# Altium schematic symbol library PBL - Resistors.SCHLIB: 223 symbols (part 4 of 4)
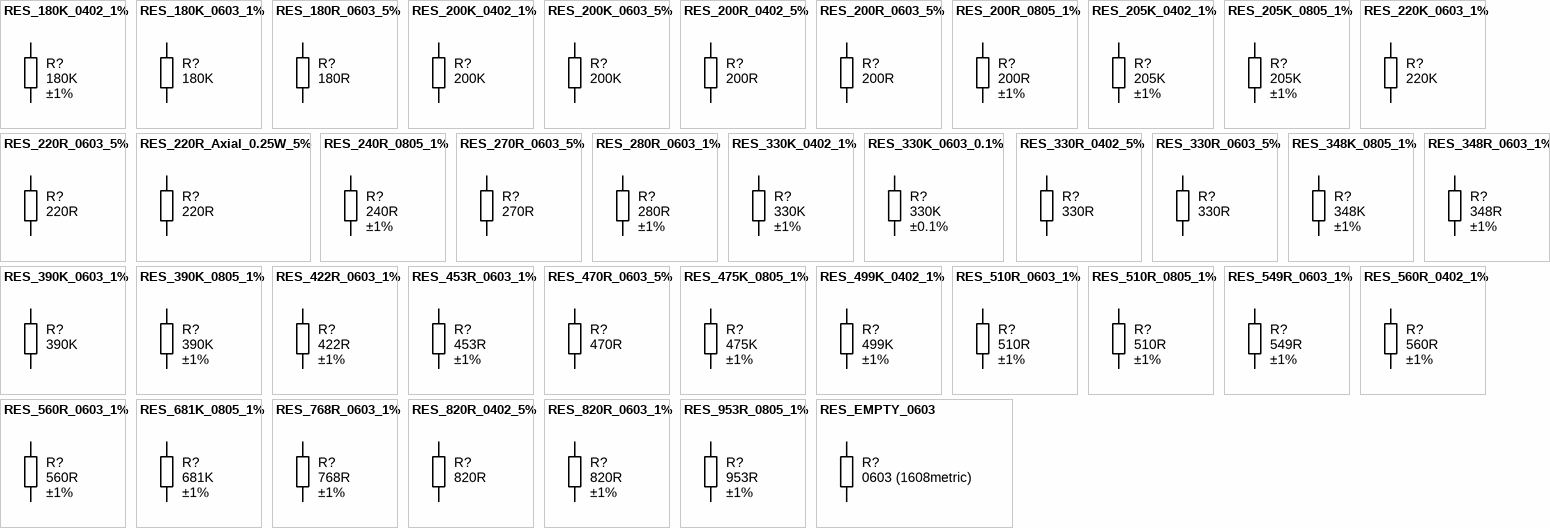
[diagram p9: symbols RES_180K_0402_1% to RES_EMPTY_0603]

## RES_510R_0603_1%
designator R?, comment value 510R  Tolerance: ±1%  (hidden comment: Thick Film)
Resistor SMD chip 510 Ohm 0.1W 1% 0603; Manufacturer 1: Yageo; Manufacturer Part Number 1: RC0603FR-07510RL; Ratings: 1/10 W; SCDType: spec; Package / Case: 0603 (1608 Metric); Material: Thick Film; Supplier 1: Digi-Key; Supplier Part Number 1: 311-510HRCT-ND
footprint RESC1608X55N (Chip Resistor, Body 1.6x0.8mm, 0603, IPC Medium Density)
pins: 1, 2

## RES_510R_0805_1%
designator R?, comment value 510R  Tolerance: ±1%  (hidden comment: Thick Film)
Resistor SMD chip 510 Ohm 0.125W 1% 0805; Manufacturer 1: Yageo; Manufacturer Part Number 1: RC0805FR-07510RL; Ratings: 1/8 W; SCDType: spec; Package / Case: 0805 (2012 Metric); Material: Thick Film; Supplier 1: Digi-Key; Supplier Part Number 1: 311-510CRCT-ND
footprint RESC2012X70N (Chip Resistor, Body 2.0x1.2mm, 0805, IPC Medium Density)
pins: 1, 2

## RES_549R_0603_1%
designator R?, comment value 549R  Tolerance: ±1%  (hidden comment: Thick Film)
Resistor SMD chip 549 Ohm 0.1W 1% 0603; Manufacturer 1: Yageo; Manufacturer Part Number 1: RC0603FR-07549RL; Ratings: 1/10W; SCDType: undef; Package / Case: 0603 (1608 Metric); Supplier 1: Digi-Key; Supplier Part Number 1: 311-549HRCT-ND
footprint RESC1608X55N (Chip Resistor, Body 1.6x0.8mm, 0603, IPC Medium Density)
pins: 1, 2

## RES_560R_0402_1%
designator R?, comment value 560R  Tolerance: ±1%  (hidden comment: Thick Film)
Resistor SMD chip 560 Ohm 0.063W 1% 0402; Ratings: 1/16 W; Package / Case: 0402 (1005 Metric); Supplier 1: Digi-Key; Supplier Part Number 1: 311-560LRCT-ND
footprint RESC1005X40N (Chip Resistor, Body 1.0x0.5mm, EIA 0402, IPC Medium Density)
pins: 1, 2

## RES_560R_0603_1%
designator R?, comment Tolerance: ±1%  (hidden comment: 560R)
Resistor SMD chip 560 Ohm 0.1W 1% 0603; Manufacturer 1: Yageo; Manufacturer Part Number 1: RC0603FR-07560RL; Ratings: 1/10W; SCDType: spec; Package / Case: 0603 (1608 Metric); Supplier 1: Digi-Key; Supplier Part Number 1: 311-560HRCT-ND; Value: 560R
footprint RESC1608X55N (Chip Resistor, Body 1.6x0.8mm, 0603, IPC Medium Density)
pins: 1, 2

## RES_681K_0805_1%
designator R?, comment value 681K  Tolerance: ±1%  (hidden comment: Thick Film)
Resistor SMD chip 681K Ohm 0.125W 1% 0805; Manufacturer: Panasonic Electronic Components; Manufacturer Part Number: ERJ-6ENF6813V; Power (Watts): 0.125W, 1/8W; Temperature Coefficient: ±100ppm/°C; Supplier 1: Digi-Key; Supplier Part Number 1: P681KCCT-ND; RoHS: RoHS Compliant; Category: Resistors; Stock 1: 119799; Pricing 1: 1=0.1, 10=0.041, 100=0.0167, 1000=0.00749, 2500=0.0065 (USD); Packaging: Cut Tape (CT); Part Status: Active; Composition: Thick Film; Features: Automotive AEC-Q200; Operating Temperature: -55°C ~ 155°C; Package / Case: 0805 (2012 Metric); Supplier Device Package: 0805; Size / Dimension: 0.079" L x 0.049" W (2.00mm x 1.25mm); Height - Seated (Max): 0.028" (0.70mm); Failure Rate: -; ComponentLink1URL: https://industrial.panasonic.com/cdbs/www-data/pdf/RDA0000/AOA0000C304.pdf; ComponentLink1Description: https://industrial.panasonic.com/cdbs/www-data/pdf/RDA0000/AOA0000C304.pdf
footprint RESC2012X70N (Chip Resistor, Body 2.0x1.2mm, 0805, IPC Medium Density)
pins: 1, 2

## RES_768R_0603_1%
designator R?, comment value 768R  Tolerance: ±1%  (hidden comment: Thick Film)
Resistor SMD chip 768 Ohm 0.1W 1% 0603; Manufacturer 1: Yageo; Manufacturer Part Number 1: RC0603FR-07768RL; Ratings: 1/10W; SCDType: spec; Package / Case: 0603 (1608 Metric); Supplier 1: Digi-Key; Supplier Part Number 1: 311-768HRCT-ND
footprint RESC1608X55N (Chip Resistor, Body 1.6x0.8mm, 0603, IPC Medium Density)
pins: 1, 2

## RES_820R_0402_5%
designator R?, comment value 820R  (hidden comment: Thick Film)
Resistor SMD chip 820 Ohm 0.063W 5% 0402; Ratings: 1/16 W; SCDType: spec; Package / Case: 0402 (1005 Metric); Tolerance: ±5%; ComponentLink1URL: http://www.yageo.com/documents/recent/PYu-RC0402_51_RoHS_L_6.pdf; ComponentLink1Description: http://www.yageo.com/documents/recent/PYu-RC0402_51_RoHS_L_6.pdf; Supplier 1: Digi-Key; Supplier Part Number 1: 311-820JRCT-ND
footprint RESC1005X40N (Chip Resistor, Body 1.0x0.5mm, EIA 0402, IPC Medium Density)
pins: 1, 2

## RES_820R_0603_1%
designator R?, comment value 820R  Tolerance: ±1%  (hidden comment: Thick Film)
Resistor SMD chip 820 Ohm 0.1W 1% 0603; Manufacturer Part Number 1: RC0603FR-07820RL; Manufacturer 1: Yageo; Ratings: 1/10W; SCDType: undef; Package / Case: 0603 (1608 Metric); Supplier 1: Digi-Key; Supplier Part Number 1: 311-820HRCT-ND
footprint RESC1608X55N (Chip Resistor, Body 1.6x0.8mm, 0603, IPC Medium Density)
pins: 1, 2

## RES_953R_0805_1%
designator R?, comment value 953R  Tolerance: ±1%  (hidden comment: Thick Film)
Resistor SMD chip 953 Ohm 0.125W 1% 0805; Manufacturer 1: Vishay/Dale; Manufacturer Part Number 1: CRCW0805953RFKEA; Ratings: 1/8W; SCDType: spec; Package / Case: 0805 (2012 metric); Supplier 1: Digi-Key; Supplier Part Number 1: 541-953CCT-ND
footprint RESC2012X70N (Chip Resistor, Body 2.0x1.2mm, 0805, IPC Medium Density)
pins: 1, 2

## RES_EMPTY_0603
designator R?  Package / Case: 0603 (1608metric)  (hidden comment: *)
Resistor, 08603 SMD, Empty footprint; Value: N/A
footprint RESC1608X55N (Chip Resistor, Body 1.6x0.8mm, 0603, IPC Medium Density)
pins: 1, 2

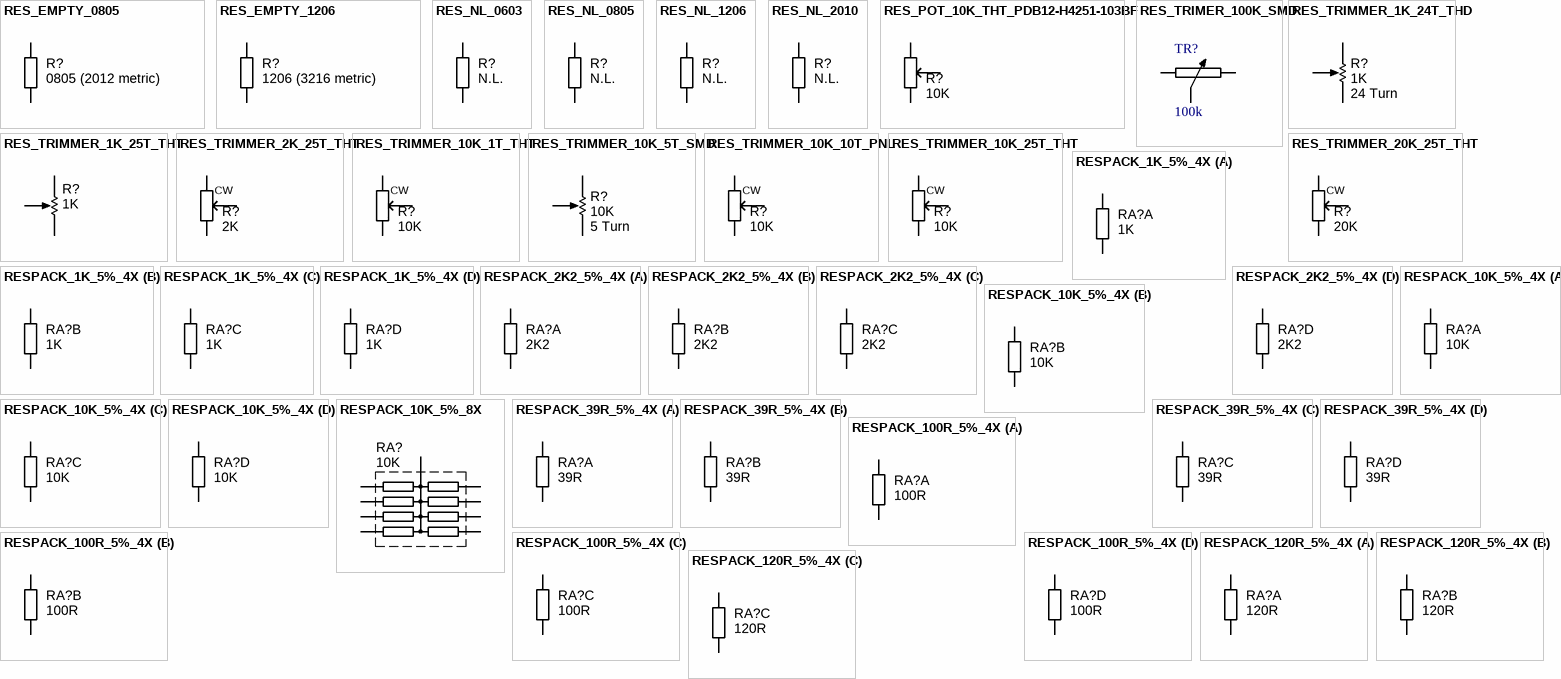
[diagram p5: symbols RES_EMPTY_0805 to RESPACK_120R_5%_4X]

## RES_EMPTY_0805
designator R?  Package / Case: 0805 (2012 metric)  (hidden comment: *)
Resistor, 0805 SMD, Empty footprint; Value: N/A
footprint RESC2012X70N (Chip Resistor, Body 2.0x1.2mm, 0805, IPC Medium Density)
pins: 1, 2

## RES_EMPTY_1206
designator R?  Package / Case: 1206 (3216 metric)  (hidden comment: *)
Resistor, 1206 SMD, Empty footprint; Value: N/A
footprint RESC3216X70N (Chip Resistor, Body 3.2x1.6mm, 1206, IPC Medium Density)
pins: 1, 2

## RES_NL_0603
designator R?  value N.L.  (hidden comment: *)  (no BOM)
Resistor, SMD chip; Package / Case: 0603 (1608 metric)
footprint RESC1608X55N (Chip Resistor, Body 1.6x0.8mm, 0603, IPC Medium Density)
pins: 1, 2

## RES_NL_0805
designator R?  value N.L.  (hidden comment: *)  (no BOM)
Resistor, SMD chip; Package / Case: 0805 (2012 metric)
footprint RESC2012X70N (Chip Resistor, Body 2.0x1.2mm, 0805, IPC Medium Density)
pins: 1, 2

## RES_NL_1206
designator R?  value N.L.  (hidden comment: *)  (no BOM)
Resistor, SMD chip; Package / Case: 1206 (3216 metric)
footprint RESC3216X70N (Chip Resistor, Body 3.2x1.6mm, 1206, IPC Medium Density)
pins: 1, 2

## RES_NL_2010
designator R?  value N.L.  (hidden comment: *)  (no BOM)
Resistor, SMD chip; Package / Case: 2010 (5025 metric)
footprint RESC5025X70N (Chip Resistor, Body 5.0x2.5mm, 2010, IPC Medium Density)
pins: 1, 2

## RES_POT_10K_THT_PDB12-H4251-103BF
designator R?  value 10K
10k Ohm 1 Gang Linear Through Hole Potentiometer None 1 Turn Carbon 0.08W PC Pins, Board Locks; Manufacturer: Bourns Inc.; Manufacturer Part Number: PDB12-H4251-103BF; Tolerance: ±20%; Rotation: 300°; Adjustment Type: Top Adjustment; Actuator Type: Flatted; Actuator Length: 0.984" (25.00mm); Actuator Diameter: 0.236" (6.00mm); Supplier 1: Digi-Key; Supplier Part Number 1: PDB12-H4251-103BF-ND; RoHS: RoHS Compliant; Category: Potentiometers, Variable Resistors; Stock 1: 946; Pricing 1: 1=0.92, 10=0.81, 25=0.7292, 50=0.702, 100=0.675, 250=0.63452, 500=0.54, 1000=0.4995, 5000=0.4104 (USD); Packaging: Bulk; Part Status: Active; Taper: Linear; Resistance (Ohms): 10k; Built in Switch: None; Power (Watts): 0.08W; Temperature Coefficient: -; Resistive Material: Carbon; Termination Style: PC Pins, Board Locks; Bushing Thread: -; Mounting Type: Through Hole; ComponentLink1URL: http://www.bourns.com/docs/Product-Datasheets/PDB12.pdf; ComponentLink1Description: http://www.bourns.com/docs/Product-Datasheets/PDB12.pdf
footprint POT_PDB12_BOURNS
pins: 1 3, 2, 3 1

## RES_TRIMER_100K_SMD
designator TR?, comment 100k
GENERIC SMD TRIMMER; Manufacturer: Bourns Inc.; Manufacturer Part Number: 3224X-1-104E; Power (Watts): 0.25W, 1/4W; Tolerance: ±10%; Temperature Coefficient: ±100ppm/°C; Number of Turns: 12; Adjustment Type: Top Adjustment; Resistive Material: Cermet; Supplier 1: Digi-Key; Supplier Part Number 1: 3224X-1-104ECT-ND; RoHS: RoHS Compliant; Category: Potentiometers, Variable Resistors; Stock 1: 1122; Pricing 1: 1=4.92, 10=4.507, 25=4.0156, 50=3.7698, 100=3.4419 (USD); Packaging: Cut Tape (CT); Part Status: Active; Mounting Type: Surface Mount; Termination Style: Gull Wing; Size / Dimension: Rectangular - 0.189" x 0.138" Face x 0.209" H (4.80mm x 3.50mm x 5.30mm); ComponentLink1URL: http://www.bourns.com/docs/Product-Datasheets/3224.pdf; ComponentLink1Description: http://www.bourns.com/docs/Product-Datasheets/3224.pdf
footprint TRIM3224
pins: 1, 2, W

## RES_TRIMMER_1K_24T_THD
designator R?, comment 24 Turn  value 1K
Trimmer, 24-Turn, 1K; Manufacturer 1: VISHAY SPECTROL; Manufacturer Part Number 1: 64Y-102; Tolerance: 10%; Ratings: 24 turn variable cermet; SCDType: spec; Supplier 1: Newark; Supplier Part Number 1: 99K0122
footprint VishaySpectrol_64Y (VISHAY SPECTROL - 64Y - TRIMMER)
pins: 1 CCW, 2 TAP, 3 CW

## RES_TRIMMER_1K_25T_THT
designator R?, comment value 1K  (hidden comment: 25 Turn)
Trimmer, 25-Turn, 1K cermet; Manufacturer 1: Murata Electronics North America; Manufacturer Part Number 1: PV36Y102C01B00; Tolerance: 10%; Ratings: 25 turn variable cermet; SCDType: spec; Supplier 1: Digi-Key; Supplier Part Number 1: 490-2912-ND
footprint TrimPot_THT_2.54mm pitch (TRIMMER, MURATA, PV36Y)
pins: 1 CCW, 2 TAP, 3 CW

## RES_TRIMMER_2K_25T_THT
designator R?, comment value 2K  (hidden comment: 25 turns)
Trimmer THD 2K 500mW 25-turn; Manufacturer 1: Murata Electronics North America; Manufacturer Part Number 1: PV36X202C01B00; Tolerance: ±10%; Ratings: 1/2W; ±100ppm/°C; SCDType: spec; Material: Cermet; Package / Case: 10.9mm L x 5.0mm W x 10.0mm H; Supplier 1: Digi-Key; Supplier Part Number 1: 490-2899-ND
footprint TrimPot_THT_PV36X (TRIMMER, MURATA, PV36X)
pins: CCW 1, CW 3, W 2

## RES_TRIMMER_10K_1T_THT
designator R?, comment value 10K  (hidden comment: Single-turn pot)
Trimmer THD 10K 200mW Single-turn; Manufacturer 1: Bourns Inc.; Manufacturer Part Number 1: 3306F-1-103; Tolerance: ±25%; Ratings: 1/5W; SCDType: spec; Supplier 1: Digi-Key; Supplier Part Number 1: 3306F-103-ND; Material: Cermet; Package / Case: 8.10mm L x 6.81mm W x 7.62mm H
footprint POT_3306F
pins: CCW 1, CW 3, W 2

## RES_TRIMMER_10K_5T_SMD
designator R?, comment 5 Turn  value 10K
Trimmer SMD 10K 250mW 5-turn Side-adjust; Manufacturer 1: Bourns Inc.; Manufacturer Part Number 1: 3214G-1-103E; Tolerance: 10%; Ratings: 5 turn variable cermet; Number of Turns: 5; SCDType: spec; Supplier 1: Digi-Key; Supplier Part Number 1: 3214G-1-103ECT-ND
footprint TrimPot_SMD_Bourns_3214G (Bourns- 3214G - TRIMMER)
pins: 1 CCW, 2 WIPER, 3 CW

## RES_TRIMMER_10K_10T_PNL
designator R?, comment value 10K  (hidden comment: 10 turns)  (mechanical)
Trimmer panel mount 10K 2W 10-turn; Manufacturer: Bourns Inc.; Manufacturer Part Number: 3590S-2-103L; Tolerance: ±5%; Ratings: 2W; ±50ppm/°C; SCDType: spec; Material: Wirewound; Supplier 1: Digi-Key; Supplier Part Number 1: 3590S-2-103L-ND; ComponentLink1URL: http://www.bourns.com/data/global/pdfs/3590.pdf; ComponentLink1Description: 3590 Series Datasheet; Package / Case: Round - 0.875" Dia x 0.732" L (22.22mm x 18.60mm)
pins: 1 CCW, 2 W, 3 CW

## RES_TRIMMER_10K_25T_THT
designator R?, comment value 10K  (hidden comment: 25 turns)
Trimmer THD 10K 500mW 25-turn; Manufacturer 1: Murata Electronics North America; Manufacturer Part Number 1: PV36X103C01B00; Tolerance: ±10%; Ratings: 1/2W; ±100ppm/°C; SCDType: spec; Material: Cermet; Package / Case: 10.9mm L x 5.0mm W x 10.0mm H; Supplier 1: Digi-Key; Supplier Part Number 1: 490-2894-ND
footprint TRIMPOT_THT_PV36X (TRIMMER, MURATA, PV36X)
pins: CCW 1, CW 3, W 2

## RES_TRIMMER_20K_25T_THT
designator R?, comment value 20K  (hidden comment: 25 turns)
Trimmer THD 20K 500mW 25-turn; Manufacturer 1: Murata Electronics North America; Manufacturer Part Number 1: PV36X203C01B00; Tolerance: ±10%; Ratings: 1/2W; ±100ppm/°C; SCDType: spec; Material: Cermet; Package / Case: 10.9mm L x 5.0mm W x 10.0mm H; Supplier 1: Digi-Key; Supplier Part Number 1: 490-2900-ND
footprint TrimPot_THT_PV36X (TRIMMER, MURATA, PV36X)
pins: CCW 1, CW 3, W 2

## RESPACK_1K_5%_4X
designator RA?, comment value 1K  (hidden comment: Film Res Pack)
Resistor array 1K Ohm 4-pack 62.5mW 5% 4x1608 SMD; Manufacturer 1: Yageo; Manufacturer Part Number 1: YC164-JR-071KL; Ratings: 1/16 W; Number of Resistors: 4; Circuit Type: Isolated; SCDType: source; Package / Case: 1206 (3216 Metric), Convex; Tolerance: ±5%; Number of Pins: 8; Power Per Element: 62.5mW; Mounting Type: Surface Mount; Supplier Device Package: 4 x 0603; Operating Temperature: -55°C ~ 155°C; ComponentLink1URL: http://www.yageo.com/documents/recent/PYu-YC_TC164_51_RoHS_L_3.pdf; ComponentLink1Description: http://www.yageo.com/documents/recent/PYu-YC_TC164_51_RoHS_L_3.pdf; Supplier 1: Digi-Key; Supplier Part Number 1: YC164J-1.0KCT-ND; Supplier 2: Digi-Key; Supplier Part Number 2: CRA6S81.0KCT-ND; Manufacturer 2: Vishay Dale; Manufacturer Part Number 2: CRA06S0831K00JTA; ComponentLink2URL: http://www.vishay.com/doc?31002; ComponentLink2Description: http://www.vishay.com/doc?31002; Supplier 3: Digi-Key; Supplier Part Number 3: RAVF164DJT1K00CT-ND; Manufacturer 3: Stackpole Electronics Inc; Manufacturer Part Number 3: RAVF164DJT1K00; RoHS 3: RoHS Compliant; Size / Dimension: 0.126" L x 0.063" W (3.20mm x 1.60mm); ComponentLink3URL: http://www.seielect.com/Catalog/SEI-RAVF.pdf; ComponentLink3Description: http://www.seielect.com/Catalog/SEI-RAVF.pdf; Supplier 4: Digi-Key; Supplier Part Number 4: Y9102CT-ND; Manufacturer 4: Panasonic Electronic Components; Manufacturer Part Number 4: EXB-38V102JV; RoHS 4: RoHS Compliant; ComponentLink4URL: http://industrial.panasonic.com/www-cgi/jvcr13pz.cgi?E+PZ+3+AOC0001+EXB38V102JV+7+WW; ComponentLink4Description: http://industrial.panasonic.com/www-cgi/jvcr13pz.cgi?E+PZ+3+AOC0001+EXB38V102JV+7+WW; Manufacturer Part Number 5: 4D03WGJ0102T5E; Manufacturer 5: Royal Ohm
footprint RESCAXS50P160X320X70-8N (Resistor Pack, Body 1.6x3.2mm, 4x0603, IPC Medium Density)
part A pins: 1, 8
part B pins: 2, 7
part C pins: 3, 6
part D pins: 4, 5

## RESPACK_2K2_5%_4X
designator RA?, comment value 2K2  (hidden comment: Thick Film)
Resistor array 2.2K Ohm 4-pack 62.5mW 5% 4x1608 SMD; Manufacturer 1: Yageo; Manufacturer Part Number 1: YC164-JR-072K2L; Ratings: 1/16 W; Number of Resistors: 4; Circuit Type: Isolated; SCDType: source; Package / Case: 1206 (3216 Metric), Convex; Tolerance: ±5%; Supplier 1: Digi-Key; Supplier Part Number 1: YC164J-2.2KCT-ND; Number of Pins: 8; Power Per Element: 62.5mW; Mounting Type: Surface Mount; Supplier Device Package: 4 x 0603; Operating Temperature: -55°C ~ 155°C; ComponentLink1URL: http://www.yageo.com/documents/recent/PYu-YC_TC164_51_RoHS_L_3.pdf; ComponentLink1Description: http://www.yageo.com/documents/recent/PYu-YC_TC164_51_RoHS_L_3.pdf; Supplier 2: Digi-Key; Supplier Part Number 2: CRA6S82.2KCT-ND; Manufacturer 2: Vishay Dale; Manufacturer Part Number 2: CRA06S0832K20JTA; RoHS 2: RoHS Compliant; Size / Dimension: 0.126" L x 0.059" W (3.20mm x 1.50mm); ComponentLink2URL: http://www.vishay.com/doc?31002; ComponentLink2Description: http://www.vishay.com/doc?31002; Supplier 3: Digi-Key; Supplier Part Number 3: RAVF164DJT2K20CT-ND; Manufacturer 3: Stackpole Electronics Inc; Manufacturer Part Number 3: RAVF164DJT2K20; RoHS 3: RoHS Compliant; ComponentLink3URL: http://www.seielect.com/Catalog/SEI-RAVF.pdf; ComponentLink3Description: http://www.seielect.com/Catalog/SEI-RAVF.pdf; Supplier 4: Digi-Key; Supplier Part Number 4: Y9222CT-ND; Manufacturer 4: Panasonic Electronic Components; Manufacturer Part Number 4: EXB-38V222JV; RoHS 4: RoHS Compliant; ComponentLink4URL: http://industrial.panasonic.com/www-cgi/jvcr13pz.cgi?E+PZ+3+AOC0001+EXB38V222JV+7+WW; ComponentLink4Description: http://industrial.panasonic.com/www-cgi/jvcr13pz.cgi?E+PZ+3+AOC0001+EXB38V222JV+7+WW; Manufacturer 5: Royal Ohm; Manufacturer Part Number 5: 4D03WGJ0222T5E
footprint RESCAXS50P160X320X70-8N (Resistor Pack, Body 1.6x3.2mm, 4x0603, IPC Medium Density)
part A pins: 1, 8
part B pins: 2, 7
part C pins: 3, 6
part D pins: 4, 5

## RESPACK_10K_5%_4X
designator RA?, comment value 10K  (hidden comment: Film Res Cap)
Resistor array 10K Ohm 4-pack 62.5mW 5% 4x1608 SMD; Manufacturer 1: Yageo; Manufacturer Part Number 1: YC164-JR-0710KL; Ratings: 1/16 W; Number of Resistors: 4; Circuit Type: Isolated; SCDType: source; Package / Case: 1206 (3216 Metric), Convex; Tolerance: ±5%; Number of Pins: 8; Power Per Element: 62.5mW; Mounting Type: Surface Mount; Supplier Device Package: 4 x 0603; Operating Temperature: -55°C ~ 155°C; Supplier 1: Digi-Key; Supplier Part Number 1: YC164J-10KCT-ND; RoHS 1: RoHS Compliant; Size / Dimension: 0.126" L x 0.063" W (3.20mm x 1.60mm); ComponentLink1URL: http://www.yageo.com/documents/recent/PYu-YC_TC164_51_RoHS_L_3.pdf; ComponentLink1Description: http://www.yageo.com/documents/recent/PYu-YC_TC164_51_RoHS_L_3.pdf; Supplier 2: Digi-Key; Supplier Part Number 2: CRA6S810KCT-ND; Manufacturer 2: Vishay Dale; Manufacturer Part Number 2: CRA06S08310K0JTA; RoHS 2: RoHS Compliant; ComponentLink2URL: http://www.vishay.com/doc?31002; ComponentLink2Description: http://www.vishay.com/doc?31002; Supplier 3: Digi-Key; Supplier Part Number 3: RAVF164DJT10K0CT-ND; Manufacturer 3: Stackpole Electronics Inc; Manufacturer Part Number 3: RAVF164DJT10K0; RoHS 3: RoHS Compliant; ComponentLink3URL: http://www.seielect.com/Catalog/SEI-RAVF.pdf; ComponentLink3Description: http://www.seielect.com/Catalog/SEI-RAVF.pdf; Supplier 4: Digi-Key; Supplier Part Number 4: Y9103CT-ND; Manufacturer 4: Panasonic Electronic Components; Manufacturer Part Number 4: EXB-38V103JV; RoHS 4: RoHS Compliant; ComponentLink4URL: http://industrial.panasonic.com/www-cgi/jvcr13pz.cgi?E+PZ+3+AOC0001+EXB38V103JV+7+WW; ComponentLink4Description: http://industrial.panasonic.com/www-cgi/jvcr13pz.cgi?E+PZ+3+AOC0001+EXB38V103JV+7+WW
footprint RESCAXS50P160X320X70-8N (Resistor Pack, Body 1.6x3.2mm, 4x0603, IPC Medium Density)
part A pins: 1, 8
part B pins: 2, 7
part C pins: 3, 6
part D pins: 4, 5

## RESPACK_10K_5%_8X
designator RA?, comment value 10K  (hidden comment: Thick Film)
Resistor array 10K Ohm 8-pack 62.5mW 5% 1608 SMD; Manufacturer 1: Panasonic - ECG; Manufacturer Part Number 1: EXB-E10C103J; Ratings: 1/16 W; Number of Resistors: 8; SCDType: source; Package / Case: 1608 (4021 Metric), Concave; Tolerance: ±5%; Supplier 1: Digi-Key; Supplier Part Number 1: U8103CT-ND
footprint RESP4021N8X (Resistor Pack, Body 4.0x2.1mm, 8 elements bussed, IPC Medium Density)
pins: 1 COM, 2, 3, 4, 5, 6 COM, 7, 8, 9, 10

## RESPACK_39R_5%_4X
designator RA?, comment value 39R  (hidden comment: Thick Film)
Resistor array 39 Ohm 4-pack 62.5mW 5% 4x1608 SMD; Manufacturer 1: Yageo; Manufacturer Part Number 1: YC164-JR-0739RL; Ratings: 1/16 W; Number of Resistors: 4; Circuit Type: Isolated; Parameter Name: ±200ppm/°C; SCDType: source; Package / Case: 1206 (3216 Metric), Convex; Tolerance: ±5%; Number of Pins: 8; Power Per Element: 62.5mW; Mounting Type: Surface Mount; Supplier Device Package: 4 x 0603; Operating Temperature: -55°C ~ 155°C; Supplier 1: Digi-Key; Supplier Part Number 1: YC164J-39CT-ND; RoHS 1: RoHS Compliant; Size / Dimension: 0.126" L x 0.063" W (3.20mm x 1.60mm); ComponentLink1URL: http://www.yageo.com/documents/recent/PYu-YC_TC164_51_RoHS_L_3.pdf; ComponentLink1Description: http://www.yageo.com/documents/recent/PYu-YC_TC164_51_RoHS_L_3.pdf; Supplier 2: Digi-Key; Supplier Part Number 2: CRA6S839CT-ND; Manufacturer 2: Vishay Dale; Manufacturer Part Number 2: CRA06S08339R0JTA; RoHS 2: RoHS Compliant; ComponentLink2URL: http://www.vishay.com/doc?31002; ComponentLink2Description: http://www.vishay.com/doc?31002; Supplier 3: Digi-Key; Supplier Part Number 3: RAVF164DJT39R0CT-ND; Manufacturer 3: Stackpole Electronics Inc; Manufacturer Part Number 3: RAVF164DJT39R0; RoHS 3: RoHS Compliant; ComponentLink3URL: http://www.seielect.com/Catalog/SEI-RAVF.pdf; ComponentLink3Description: http://www.seielect.com/Catalog/SEI-RAVF.pdf; Supplier 4: Digi-Key; Supplier Part Number 4: Y9390CT-ND; Manufacturer 4: Panasonic Electronic Components; Manufacturer Part Number 4: EXB-38V390JV; RoHS 4: RoHS Compliant; ComponentLink4URL: http://industrial.panasonic.com/www-cgi/jvcr13pz.cgi?E+PZ+3+AOC0001+EXB38V390JV+7+WW; ComponentLink4Description: http://industrial.panasonic.com/www-cgi/jvcr13pz.cgi?E+PZ+3+AOC0001+EXB38V390JV+7+WW
footprint RESCAXS50P160X320X70-8N (Resistor Pack, Body 1.6x3.2mm, 4x0603, IPC Medium Density)
part A pins: 1, 8
part B pins: 2, 7
part C pins: 3, 6
part D pins: 4, 5

## RESPACK_100R_5%_4X
designator RA?, comment value 100R  (hidden comment: Thick Film)
Resistor array 100 Ohm 4-pack 62.5mW 5% 4x1608 SMD; Manufacturer 1: Yageo; Manufacturer Part Number 1: YC164-JR-07100RL; Ratings: 1/16 W; Number of Resistors: 4; Circuit Type: Isolated; Parameter Name: ±200ppm/°C; SCDType: source; Package / Case: 1206 (3216 Metric), Convex; Tolerance: ±5%; Number of Pins: 8; Power Per Element: 62.5mW; Mounting Type: Surface Mount; Supplier Device Package: 4 x 0603; Operating Temperature: -55°C ~ 155°C; Supplier 1: Digi-Key; Supplier Part Number 1: YC164J-100CT-ND; RoHS 1: RoHS Compliant; Size / Dimension: 0.126" L x 0.063" W (3.20mm x 1.60mm); ComponentLink1URL: http://www.yageo.com/documents/recent/PYu-YC_TC164_51_RoHS_L_3.pdf; ComponentLink1Description: http://www.yageo.com/documents/recent/PYu-YC_TC164_51_RoHS_L_3.pdf; Supplier 2: Digi-Key; Supplier Part Number 2: CRA6S8100CT-ND; Manufacturer 2: Vishay Dale; Manufacturer Part Number 2: CRA06S083100RJTA; RoHS 2: RoHS Compliant; ComponentLink2URL: http://www.vishay.com/doc?31002; ComponentLink2Description: http://www.vishay.com/doc?31002; Supplier 3: Digi-Key; Supplier Part Number 3: RAVF164DJT100RCT-ND; Manufacturer 3: Stackpole Electronics Inc; Manufacturer Part Number 3: RAVF164DJT100R; RoHS 3: RoHS Compliant; ComponentLink3URL: http://www.seielect.com/Catalog/SEI-RAVF.pdf; ComponentLink3Description: http://www.seielect.com/Catalog/SEI-RAVF.pdf; Supplier 4: Digi-Key; Supplier Part Number 4: Y9101CT-ND; Manufacturer 4: Panasonic Electronic Components; Manufacturer Part Number 4: EXB-38V101JV; RoHS 4: RoHS Compliant; ComponentLink4URL: http://industrial.panasonic.com/www-cgi/jvcr13pz.cgi?E+PZ+3+AOC0001+EXB38V101JV+7+WW; ComponentLink4Description: http://industrial.panasonic.com/www-cgi/jvcr13pz.cgi?E+PZ+3+AOC0001+EXB38V101JV+7+WW
footprint RESCAXS50P160X320X70-8N (Resistor Pack, Body 1.6x3.2mm, 4x0603, IPC Medium Density)
part A pins: 1, 8
part B pins: 2, 7
part C pins: 3, 6
part D pins: 4, 5

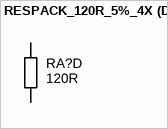
[diagram p6: symbol RESPACK_120R_5%_4X]

## RESPACK_120R_5%_4X
designator RA?, comment value 120R  (hidden comment: Thick Film)
Resistor array 120 Ohm 4-pack 62.5mW 5% 4x1608 SMD; Manufacturer 1: Yageo; Manufacturer Part Number 1: YC164-JR-07120RL; Ratings: 1/16 W; Number of Resistors: 4; Circuit Type: Isolated; Parameter Name: ±200ppm/°C; SCDType: source; Package / Case: 1206 (3216 Metric), Convex; Tolerance: ±5%; Number of Pins: 8; Power Per Element: 62.5mW; Mounting Type: Surface Mount; Supplier Device Package: 4 x 0603; Operating Temperature: -55°C ~ 155°C; ComponentLink1URL: http://www.yageo.com/documents/recent/PYu-YC_TC164_51_RoHS_L_3.pdf; ComponentLink1Description: http://www.yageo.com/documents/recent/PYu-YC_TC164_51_RoHS_L_3.pdf; Supplier 1: Digi-Key; Supplier Part Number 1: YC164J-120CT-ND; Supplier 2: Digi-Key; Supplier Part Number 2: CRA6S8120CT-ND; Manufacturer 2: Vishay Dale; Manufacturer Part Number 2: CRA06S083120RJTA; RoHS 2: RoHS Compliant; Size / Dimension: 0.126" L x 0.059" W (3.20mm x 1.50mm); ComponentLink2URL: http://www.vishay.com/doc?31002; ComponentLink2Description: http://www.vishay.com/doc?31002; RoHS 1: RoHS Compliant; Supplier 3: Digi-Key; Supplier Part Number 3: Y9121CT-ND; Manufacturer 3: Panasonic Electronic Components; Manufacturer Part Number 3: EXB-38V121JV; RoHS 3: RoHS Compliant; ComponentLink3URL: http://industrial.panasonic.com/www-cgi/jvcr13pz.cgi?E+PZ+3+AOC0001+EXB38V121JV+7+WW; ComponentLink3Description: http://industrial.panasonic.com/www-cgi/jvcr13pz.cgi?E+PZ+3+AOC0001+EXB38V121JV+7+WW; Supplier 4: Digi-Key; Supplier Part Number 4: RAVF164DJT120R-ND; Manufacturer 4: Stackpole Electronics Inc; Manufacturer Part Number 4: RAVF164DJT120R; RoHS 4: RoHS Compliant; ComponentLink4URL: http://www.seielect.com/Catalog/SEI-RAVF.pdf; ComponentLink4Description: http://www.seielect.com/Catalog/SEI-RAVF.pdf
footprint RESCAXS50P160X320X70-8N (Resistor Pack, Body 1.6x3.2mm, 4x0603, IPC Medium Density)
part A pins: 1, 8
part B pins: 2, 7
part C pins: 3, 6
part D pins: 4, 5